# Altium footprint library LABLIB.PcbLib: 244 footprints (part 4 of 17)
Each footprint in its own frame and in the unit in brackets; x right, y up, seen from the top. Pads: shape width x height; smd on the part's side, far side on the other; paste and mask are expansions set on the pad; w line width, h text height; cw(c..) or ccw(c..) is an arc to the next point about the centre after c.
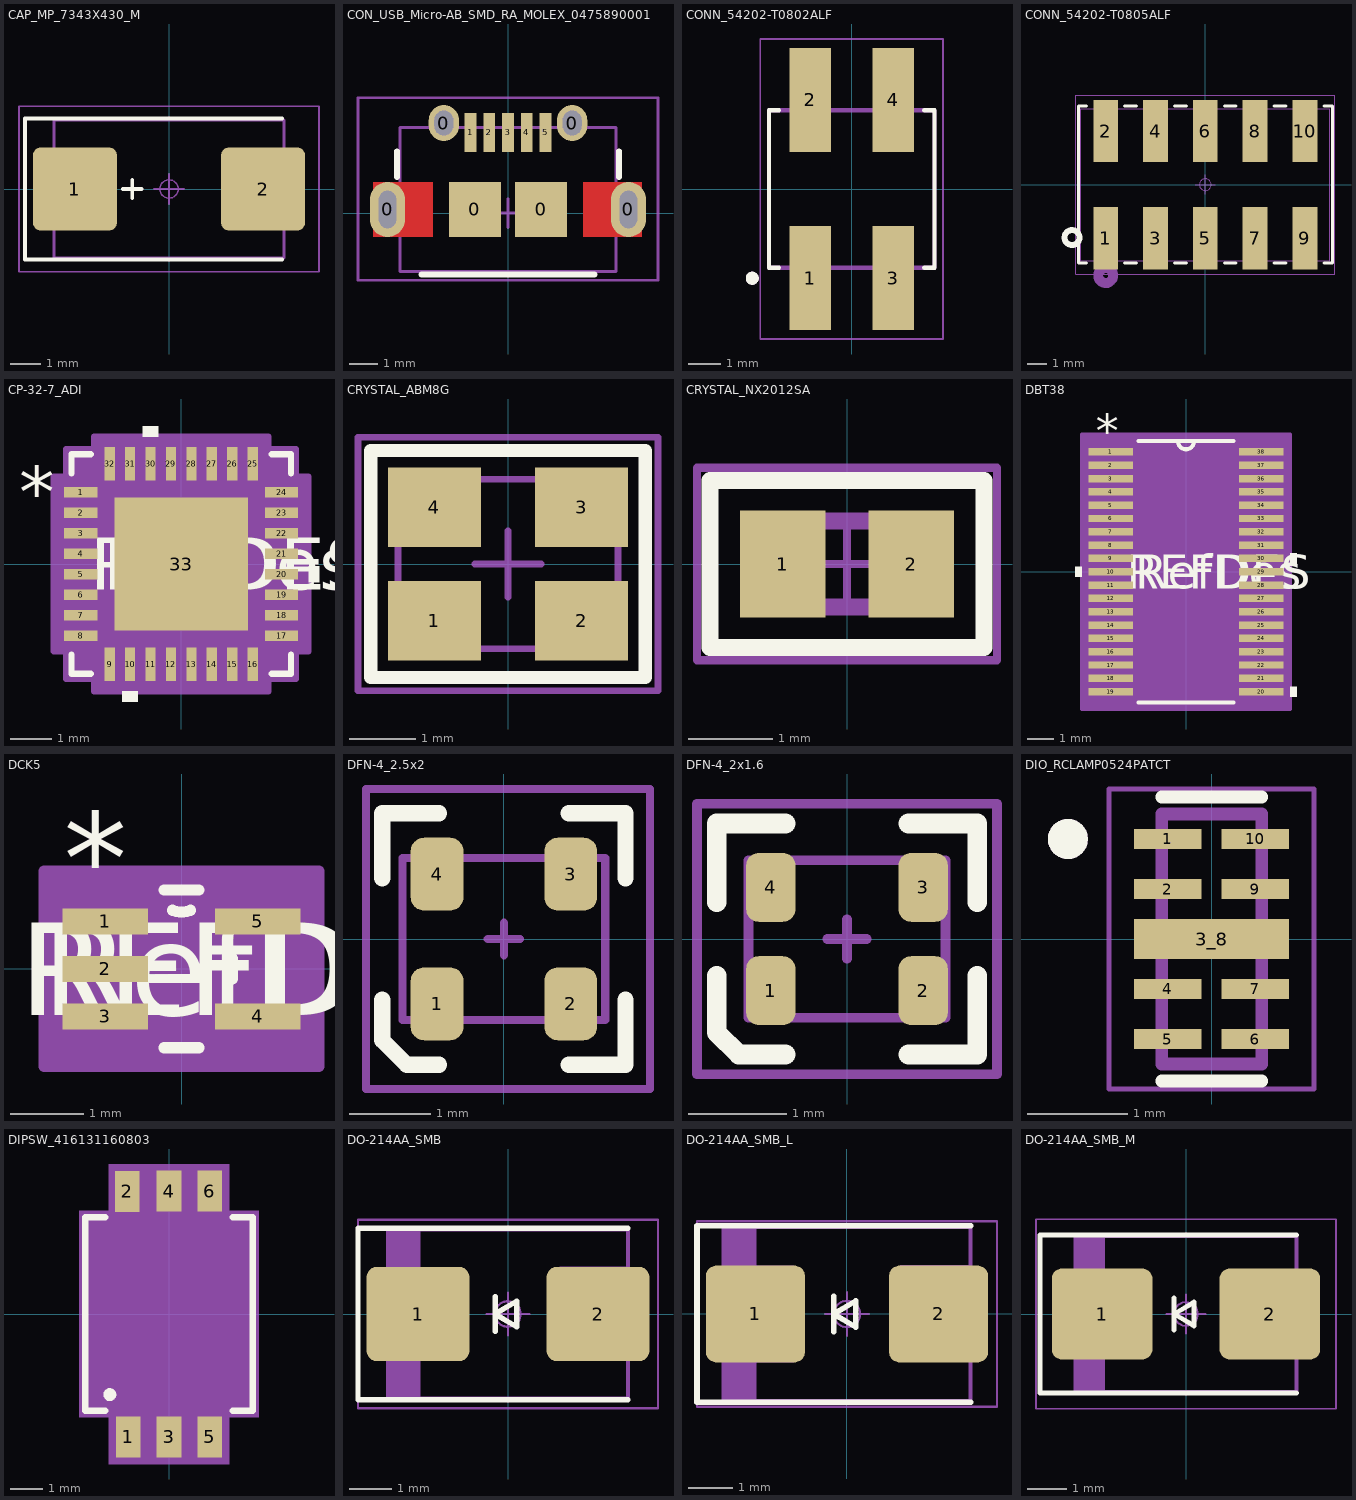
[diagram p3: the footprints below, top view; thin cyan lines are the x and y axes]

## CAP_MP_7343X430_M [mm] "Molded Capacitor, 2-Leads, Body 7.30x4.35mm, IPC Medium Density"
height 4.3
pads (2):
  rrect18% 2.75x2.7 smd: 1(-3.075,0) 2(3.075,0)
Top Overlay:
  lines w0.125: -1.5,0 -0.9,0 ; -1.2,-0.3 -1.2,0.3 ; 3.7,-2.3 -4.7,-2.3 -4.7,2.3 3.7,2.3
Top Assembly:
  lines w0.1: -3.75,-2.25 3.75,-2.25 3.75,2.25 -3.75,2.25 -3.75,-2.25
  text "'.Designator'" at -3.952,-0.622 h1.5
Top Courtyard:
  lines w0.05: -4.9,-2.7 -4.9,2.7 4.9,2.7 4.9,-2.7 -4.9,-2.7
Top Component Outline:
  rectangle: -3.75,-1.3 -2.15,1.3
  region: 3.75,1.3 2.15,1.3 2.15,-1.3 3.75,-1.3
  lines w0.05: -3.75,-2.25 -3.75,2.25 3.75,2.25 3.75,-2.25 -3.75,-2.25
Top Component Center:
  circle w0.05: c0,0 r0.3
  lines w0.05: -0.5,0 0.5,0 ; 0,-0.5 0,0.5
3D body "TAJE_AVX.step": height 4.37, standoff 0, extent -3.746,-2.248 3.746,2.248

## CON_USB_Micro-AB_SMD_RA_MOLEX_0475890001 [mm] "Connector, Receptacle, Micro-USB Type AB, R/A, SMT"
height 2.96
pads (11):
  oval 1.225x1.9 hole 0.6 slot 1.3 at 90 deg: 0(-4.175,0.127) 0(4.175,0.127)
  oval 1.05x1.25 hole 0.65 slot 0.85 at 90 deg mask+0.05: 0(-2.225,3.125) 0(2.225,3.125)
  rect 1.8x1.9 smd: 0(-1.15,0.127) 0(1.15,0.127)
  rect 0.4x1.35 smd mask+0.05: 1(-1.3,2.8) 2(-0.65,2.8) 3(0,2.8) 4(0.65,2.8) 5(1.3,2.8)
Top Layer:
  rectangle: -4.675,-0.823 -2.6,1.077
  region: 4.65,1.077 2.6,1.077 2.6,-0.823 4.65,-0.823
Top Overlay:
  lines w0.2: -3.85,1.25 -3.85,2.15 ; -3,-2.125 3,-2.125 ; 3.85,1.25 3.85,2.15
  text "." at -1.524,4.191 h1
Top Assembly:
  lines w0.1: -3.75,-2.025 -3.75,2.975 3.75,2.975 3.75,-2.025 -3.75,-2.025
  text "1" at -1.5,1.775 h1
Top Courtyard:
  lines w0.1: -0.5,0 0.5,0 ; 0,-0.5 0,0.5 ; -5.2,-2.325 -5.2,4 5.2,4 5.2,-2.325 -5.2,-2.325
3D body "475890001.stp": height 2.76, standoff -0.55, extent -4.318,-2.566 4.332,3.328

## CONN_54202-T0802ALF [mm]
height 9.85
pads (4):
  rect 1.27x3.18 smd: 1(-1.27,-2.73) 2(-1.27,2.73) 3(1.27,-2.73) 4(1.27,2.73)
Top Overlay:
  circle w0.2: c-3.05,-2.737 r0.1
  lines w0.127: -2.225,-2.415 -2.54,-2.415 -2.54,2.415 -2.225,2.415 ; 2.225,-2.415 2.54,-2.415 2.54,2.415 2.225,2.415
Mechanical 13:
  circle w0.2: c-3.05,-2.737 r0.1
  lines w0.127: -2.54,-2.415 -2.54,2.415 2.54,2.415 2.54,-2.415 -2.54,-2.415
Mechanical 15:
  lines w0.05: -2.8,-4.6 -2.8,4.6 2.8,4.6 2.8,-4.6 -2.8,-4.6
3D body "step_temp.STEP": height 9.65, standoff 0, extent -2.54,-3.685 2.54,3.685

## CONN_54202-T0805ALF [mil]
pads (10):
  rect 50x125 smd paste+0 mask+0: 1(-200,-107.5) 2(-200,107.5) 3(-100,-107.5) 4(-100,107.5) 5(0,-107.5) 6(0,107.5) 7(100,-107.5) 8(100,107.5) 9(200,-107.5) 10(200,107.5)
Top Overlay:
  circle w11.81: c-267.72,-106.3 r15
  lines w6: -238.1,-157.5 -255,-157.5 -255,157.5 -238.1,157.5 ; -161.9,-157.5 -138.1,-157.5 ; -161.9,157.5 -138.1,157.5 ; -61.9,-157.5 -38.1,-157.5 ; -61.9,157.5 -38.1,157.5 ; 38.1,-157.5 61.9,-157.5 ; 38.1,157.5 61.9,157.5 ; 138.1,-157.5 161.9,-157.5 ; 138.1,157.5 161.9,157.5 ; 238.1,-157.5 255,-157.5 255,157.5 238.1,157.5
Bottom Overlay:
  circle w20: c-325,-107.5 r15
Top Assembly:
  circle w20: c-200,-182.5 r15
  lines w1: -250,-152.5 -250,152.5 250,152.5 250,-152.5 -250,-152.5
  text "'.Designator'" at -155.57,-24.48 h59.06
Top Courtyard:
  lines w1.97: -260,-180 260,-180 260,180 -260,180 -260,-180
Top Component Center:
  circle w1.97: c0,0 r11.81
  lines w1.97: -19.68,0 19.68,0 ; 0,-19.68 0,19.68
3D body "54202-T0805ALF.STEP": height 379.92, standoff 0, extent -250,-145.08 250,145.08

## CP-32-7_ADI [mil]
pads (33):
  rect 32x10 smd paste+0 mask+0: 1(-96.5,68.9) 2(-96.5,49.21) 3(-96.5,29.53) 4(-96.5,9.84) 5(-96.5,-9.84) 6(-96.5,-29.53) 7(-96.5,-49.21) 8(-96.5,-68.9) 17(96.5,-68.9) 18(96.5,-49.21) 19(96.5,-29.53) 20(96.5,-9.84) 21(96.5,9.84) 22(96.5,29.53) 23(96.5,49.21) 24(96.5,68.9)
  rect 10x32 smd paste+0 mask+0: 9(-68.9,-96.5) 10(-49.21,-96.5) 11(-29.53,-96.5) 12(-9.84,-96.5) 13(9.84,-96.5) 14(29.53,-96.5) 15(49.21,-96.5) 16(68.9,-96.5) 25(68.9,96.5) 26(49.21,96.5) 27(29.53,96.5) 28(9.84,96.5) 29(-9.84,96.5) 30(-29.53,96.5) 31(-49.21,96.5) 32(-68.9,96.5)
  rect 128x128 smd paste+0 mask+0: 33(0,0)
Top Overlay:
  region: -41.71,-122.5 -56.71,-122.5 -56.71,-132.5 -41.71,-132.5
  region: 122.5,-2.34 132.5,-2.34 132.5,-17.34 122.5,-17.34
  region: -22.03,122.5 -37.03,122.5 -37.03,132.5 -22.03,132.5
  lines w6: -105.5,-87 -105.5,-105.5 -87,-105.5 ; -105.5,87 -105.5,105.5 -87,105.5 ; 87,-105.5 105.5,-105.5 105.5,-87 ; 87,105.5 105.5,105.5 105.5,87
  text "*" at -156,43.9 h50
  text "RefDes" at -75,-25 h50
  text "REFDES" at -87.5,-25 h50
Mechanical 13:
  lines w1: -100.5,50.5 -50.5,100.5 ; -100.5,-100.5 100.5,-100.5 100.5,100.5 -100.5,100.5 -100.5,-100.5 ; -100.5,-74.9 -100.5,-62.9 -100.5,-74.9 ; -100.5,-55.21 -100.5,-43.21 -100.5,-55.21 ; -100.5,-35.53 -100.5,-23.53 -100.5,-35.53 ; -100.5,-15.84 -100.5,-3.84 -100.5,-15.84 ; -100.5,3.84 -100.5,15.84 -100.5,3.84 ; -100.5,23.53 -100.5,35.53 -100.5,23.53 ; -100.5,43.21 -100.5,55.21 -100.5,43.21 ; -100.5,62.9 -100.5,74.9 -100.5,62.9 ; -74.9,-100.5 -62.9,-100.5 -74.9,-100.5 ; -74.9,100.5 -62.9,100.5 -74.9,100.5 ; -55.21,-100.5 -43.21,-100.5 -55.21,-100.5 ; -55.21,100.5 -43.21,100.5 -55.21,100.5 ; -35.53,-100.5 -23.53,-100.5 -35.53,-100.5 ; -35.53,100.5 -23.53,100.5 -35.53,100.5 ; -15.84,-100.5 -3.84,-100.5 -15.84,-100.5 ; -15.84,100.5 -3.84,100.5 -15.84,100.5 ; 3.84,-100.5 15.84,-100.5 3.84,-100.5 ; 3.84,100.5 15.84,100.5 3.84,100.5 ; 23.53,-100.5 35.53,-100.5 23.53,-100.5 ; 23.53,100.5 35.53,100.5 23.53,100.5 ; 43.21,-100.5 55.21,-100.5 43.21,-100.5 ; 43.21,100.5 55.21,100.5 43.21,100.5 ; 62.9,-100.5 74.9,-100.5 62.9,-100.5 ; 62.9,100.5 74.9,100.5 62.9,100.5 ; 100.5,-74.9 100.5,-62.9 100.5,-74.9 ; 100.5,-55.21 100.5,-43.21 100.5,-55.21 ; 100.5,-35.53 100.5,-23.53 100.5,-35.53 ; 100.5,-15.84 100.5,-3.84 100.5,-15.84 ; 100.5,3.84 100.5,15.84 100.5,3.84 ; 100.5,23.53 100.5,35.53 100.5,23.53 ; 100.5,43.21 100.5,55.21 100.5,43.21 ; 100.5,62.9 100.5,74.9 100.5,62.9
  text "*" at -62,43.9 h50
  text "RefDes2" at -87.5,-25 h50
Mechanical 15:
  region: -83.9,-110.5 -110.5,-110.5 -110.5,-83.9 -122.5,-83.9 -122.5,83.9 -110.5,83.9 -110.5,110.5 -83.9,110.5 -83.9,122.5 83.9,122.5 83.9,110.5 110.5,110.5 110.5,83.9 122.5,83.9 122.5,-83.9 110.5,-83.9 110.5,-110.5 83.9,-110.5 83.9,-122.5 -83.9,-122.5
  lines w6: -122.5,-83.9 -110.5,-83.9 -110.5,-110.5 -83.9,-110.5 -83.9,-122.5 83.9,-122.5 83.9,-110.5 110.5,-110.5 110.5,-83.9 122.5,-83.9 122.5,83.9 110.5,83.9 110.5,110.5 83.9,110.5 83.9,122.5 -83.9,122.5 -83.9,110.5 -110.5,110.5 -110.5,83.9 -122.5,83.9 -122.5,-83.9
3D body "CP-32-7_ADI.step": height 30.12, standoff 0, extent -100.51,-100.51 100.51,100.51

## CRYSTAL_ABM8G [mil]
pads (4):
  rect 55x47 smd: 1(-43.5,-33.5) 2(43.5,-33.5) 3(43.5,33.5) 4(-43.5,33.5)
Top Overlay:
  lines w7.87: -81,-67 -81,67 81,67 81,-67 -81,-67
  text "." at -93.5,-89.57 h39.37
Top Assembly:
  lines w4: -65,-50 -65,50 65,50 65,-50 -65,-50
  text "." at -55.12,-39.37 h39.37
  text ".Designator" at -11.81,25.59 h27.56
Top Courtyard:
  lines w3.94: -19.68,0 19.68,0 ; 0,-19.68 0,19.68
  lines w4: -88.58,-74.8 -88.58,74.8 88.58,74.8 88.58,-74.8 -88.58,-74.8
3D body "User Library-ABM8G.step": height 39.76, standoff 0, extent -62.99,-49.2 63,49.22

## CRYSTAL_NX2012SA [mil] "Crystal NDK NX2012SA"
height 23.62
pads (2):
  rect 40x50 smd paste-1: 1(-30,0) 2(30,0)
Top Overlay:
  lines w8: -64,-39 -64,39 64,39 64,-39 -64,-39
Top Assembly:
  lines w8: -40,-15 -40,-14 -40,15 -35,20 35,20 40,15 40,-15 35,-20 -35,-20 -40,-15
  text ".Designator" at 26.57,18.7 h39.37
Top Courtyard:
  lines w3.94: -19.68,0 19.68,0 ; 0,-19.68 0,19.68 ; -70,-45 -70,45 70,45 70,-45 -70,-45
3D body: height 12, standoff 0, extent -40,-20 40,20
3D body: height 14, standoff 12, extent -38,-18 38,18
3D body: height 21, standoff 14, extent -37,-17 37,17

## DBT38 [mil]
pads (38):
  rect 66x11 smd paste-33 mask-33: 1(-111,177.17) 2(-111,157.48) 3(-111,137.8) 4(-111,118.11) 5(-111,98.43) 6(-111,78.74) 7(-111,59.06) 8(-111,39.37) 9(-111,19.68) 10(-111,0) 11(-111,-19.68) 12(-111,-39.37) 13(-111,-59.06) 14(-111,-78.74) 15(-111,-98.43) 16(-111,-118.11) 17(-111,-137.8) 18(-111,-157.48) 19(-111,-177.17) 20(111,-177.17) 21(111,-157.48) 22(111,-137.8) 23(111,-118.11) 24(111,-98.43) 25(111,-78.74) 26(111,-59.06) 27(111,-39.37) 28(111,-19.68) 29(111,0) 30(111,19.69) 31(111,39.37) 32(111,59.06) 33(111,78.74) 34(111,98.43) 35(111,118.11) 36(111,137.8) 37(111,157.48) 38(111,177.17)
Top Overlay:
  region: -154,7.5 -164,7.5 -164,-7.5 -154,-7.5
  region: 154,-169.67 164,-169.67 164,-184.67 154,-184.67
  region: 154,27.19 164,27.19 164,12.19 154,12.19
  lines w6: -69.95,-193 69.95,-193 ; -69.95,193 69.95,193 ; -12,193 ccw(c0,193) 12,193
  text "*" at -133.5,183.17 h50
  text "RefDes" at -75,-25 h50
  text "REFDES" at -87.5,-25 h50
Mechanical 13:
  drawing of 157 lines, arcs and shapes, not listed
  text "*" at -133.5,183.17 h50
  text "RefDes2" at -87.5,-25 h50
Mechanical 15:
  region: 154,-203 -154,-203 -154,203 154,203
  lines w6: -154,-203 -154,203 154,203 154,-203 -154,-203
3D body "DBT38.step": height 47.09, standoff 0, extent -130,-192.99 130,192.99

## DCK5 [mil]
pads (5):
  rect 46x14 smd paste-23 mask-23: 1(-41,25.59) 2(-41,0) 3(-41,-25.59) 4(41,-25.59) 5(41,25.59)
Top Overlay:
  lines w6: -9.43,-42.5 9.43,-42.5 ; -9.43,42.5 9.43,42.5 ; -4.9,31.55 ccw(c0,42.5) 4.9,31.55 ; 27.5,-5.49 27.5,5.49
  text "*" at -63.5,34.59 h50
  text "RefDes" at -75,-25 h50
  text "REFDES" at -87.5,-25 h50
Mechanical 13:
  lines w0: -12,42.5 ccw(c0,42.5) 12,42.5
  lines w1: -47,-31.59 -47,-19.59 -27.5,-19.59 -27.5,-31.59 -47,-31.59 ; -47,-6 -47,6 -27.5,6 -27.5,-6 -47,-6 ; -47,19.59 -47,31.59 -27.5,31.59 -27.5,19.59 -47,19.59 ; -27.5,-42.5 27.5,-42.5 27.5,42.5 -27.5,42.5 -27.5,-42.5 ; 27.5,-31.59 27.5,-19.59 47,-19.59 47,-31.59 27.5,-31.59 ; 27.5,19.59 27.5,31.59 47,31.59 47,19.59 27.5,19.59
  text "*" at -63.5,34.59 h50
  text "RefDes2" at -87.5,-25 h50
Mechanical 15:
  region: 74,-52.5 -74,-52.5 -74,52.5 74,52.5
  lines w6: -74,-52.5 -74,52.5 74,52.5 74,-52.5 -74,-52.5
3D body "DCK5.step": height 43.11, standoff 0, extent -47.01,-42.52 47.01,42.52

## DFN-4_2.5x2 [mm] "Oscillator DSC1121"
height 0.85
pads (4):
  rrect50% 0.65x0.9 smd: 1(-0.825,-0.8) 2(0.825,-0.8) 3(0.825,0.8) 4(-0.825,0.8)
Top Overlay:
  lines w0.2: -1.5,-0.75 -1.5,-1.25 -1.2,-1.55 -0.8,-1.55 ; -1.5,0.75 -1.5,1.55 -0.8,1.55 ; 0.8,-1.55 1.5,-1.55 1.5,-0.75 ; 0.8,1.55 1.5,1.55 1.5,0.75
  text "." at -1.989,-1.752 h0.7
Top Assembly:
  lines w0.1: -1.25,-1 -1.25,1 1.25,1 1.25,-1 -1.25,-1
  text ".Designator" at 0.186,-0.302 h0.4
  text "1" at -0.9,-0.9 h0.4
Top Courtyard:
  lines w0.1: -0.2,0 0.2,0 ; 0,-0.2 0,0.2 ; -1.7,-1.85 1.8,-1.85 1.8,1.85 -1.7,1.85 -1.7,-1.85
3D body: height 0.86, standoff 0.85, extent -1.1,-0.9 -0.9,-0.7
3D body: height 0.85, standoff 0, extent -1.25,-1 1.25,1

## DFN-4_2x1.6 [mm] "MEMS Oscillator"
height 0.85
pads (4):
  rrect50% 0.5x0.7 smd: 1(-0.775,-0.525) 2(0.775,-0.525) 3(0.775,0.525) 4(-0.775,0.525)
Top Overlay:
  lines w0.2: -1.325,-0.375 -1.325,-0.95 -1.1,-1.175 -0.625,-1.175 ; -1.325,0.375 -1.325,1.175 -0.625,1.175 ; 0.625,-1.175 1.325,-1.175 1.325,-0.375 ; 0.625,1.175 1.325,1.175 1.325,0.375
  text "." at -1.6,-1.45 h0.7
Top Assembly:
  lines w0.1: -1,-0.8 1,-0.8 1,0.8 -1,0.8 -1,-0.8
  text "1" at -0.825,-0.675 h0.4
  text ".Designator" at -0.4,-0.2 h0.4
Top Courtyard:
  lines w0.1: -0.2,0 0.2,0 ; 0,-0.2 0,0.2 ; -1.525,-1.375 -1.525,1.375 1.525,1.375 1.525,-1.375 -1.525,-1.375
3D body: height 0.85, standoff 0, extent -1,-0.8 1,0.8
3D body: height 0.86, standoff 0.85, extent -0.775,-0.55 -0.575,-0.35

## DIO_RCLAMP0524PATCT [mm]
height 0.65
pads (9):
  rect 0.675x0.2 smd: 1(-0.437,1) 2(-0.437,0.5) 4(-0.437,-0.5) 5(-0.437,-1) 6(0.437,-1) 7(0.437,-0.5) 9(0.437,0.5) 10(0.437,1)
  rect 1.55x0.4 smd: 3_8(0,0)
Top Overlay:
  circle w0.2: c-1.438,1 r0.1
  lines w0.127: -0.5,-1.42 0.5,-1.42 ; -0.5,1.42 0.5,1.42
Mechanical 13:
  circle w0.2: c-1.438,1 r0.1
  lines w0.127: -0.5,-1.25 -0.5,1.25 0.5,1.25 0.5,-1.25 -0.5,-1.25
Mechanical 15:
  lines w0.05: -1.025,-1.5 1.025,-1.5 1.025,1.5 -1.025,1.5 -1.025,-1.5
3D body "step_temp.STEP": height 0.65, standoff 0, extent -0.5,-1.25 0.5,1.25

## DIPSW_416131160803 [mm] "SWITCH SLIDE DIP SPST 0.025A 24V"
pads (6):
  rect 0.76x1.27 smd: 1(-1.27,-3.81) 2(-1.3,3.8) 3(0,-3.81) 4(0,3.81) 5(1.27,-3.81) 6(1.27,3.81)
Top Overlay:
  circle w0.2: c-1.835,-2.5 r0.1
  lines w0.2: -1.97,-3 -2.59,-3 -2.59,3 -1.97,3 ; 1.97,-3 2.59,-3 2.59,3 1.97,3
Mechanical 13:
  lines w0.1: -2.49,-2.9 2.49,-2.9 2.49,2.9 -2.49,2.9 -2.49,-2.9
Mechanical 15:
  region: 1.87,3.2 2.79,3.2 2.79,-3.2 1.87,-3.2 1.87,-4.65 -1.87,-4.65 -1.87,-3.2 -2.79,-3.2 -2.79,3.2 -1.87,3.2 -1.87,4.65 1.87,4.65
3D body "step_temp.STEP": height 2.1, standoff 0, extent -2.425,-4 2.425,4

## DO-214AA_SMB [mm] "Molded Diode, 2-Leads, Body 5.40x3.63mm, IPC Medium Density"
height 2.47
pads (2):
  rrect22% 2.4x2.2 smd: 1(-2.1,0) 2(2.1,0)
Top Overlay:
  lines w0.12: 2.8,-2 -3.5,-2 -3.5,2 2.8,2
  lines w0.125: -0.3,-0.4 -0.3,0.4 ; -0.3,0 0.2,-0.3 0.2,0.3 -0.3,0
Top Assembly:
  rectangle: -2.8,-1.975 -2.047,1.975
  lines w0.1: -2.8,-1.975 2.8,-1.975 2.8,1.975 -2.8,1.975 -2.8,-1.975
  text "'.Designator'" at -3.952,-0.622 h1.5
Top Courtyard:
  lines w0.05: -3.5,-2.2 -3.5,2.2 3.5,2.2 3.5,-2.2 -3.5,-2.2
Top Component Outline:
  region: 2.798,1.107 1.198,1.107 1.198,-1.093 2.798,-1.093
  rectangle: -2.8,-1.1 -1.2,1.1
  lines w0.05: -2.8,-1.975 2.8,-1.975 2.8,1.975 -2.8,1.975 -2.8,-1.975
Top Component Center:
  circle w0.05: c0,0 r0.3
  lines w0.05: -0.5,0 0.5,0 ; 0,-0.5 0,0.5
3D body "5BT.STEP": height 2.44, standoff 0, extent -2.699,-1.81 2.699,1.81

## DO-214AA_SMB_L [mm] "Molded Diode, 2-Leads, Body 5.40x3.63mm, IPC Medium Density"
height 2.47
pads (2):
  rrect22% 2.25x2.2 smd: 1(-2.075,0) 2(2.075,0)
Top Overlay:
  lines w0.125: -0.3,-0.4 -0.3,0.4 ; 2.8,-2 -3.4,-2 -3.4,2 2.8,2 ; -0.3,0 0.2,-0.3 0.2,0.3 -0.3,0
Top Assembly:
  rectangle: -2.8,-1.975 -2.047,1.975
  lines w0.1: -2.8,-1.975 2.8,-1.975 2.8,1.975 -2.8,1.975 -2.8,-1.975
  text "'.Designator'" at -3.952,-0.622 h1.5
Top Courtyard:
  lines w0.05: -3.4,-2.1 3.4,-2.1 3.4,2.1 -3.4,2.1 -3.4,-2.1
Top Component Outline:
  rectangle: -2.8,-1.1 -1.2,1.1
  region: 2.798,1.107 1.198,1.107 1.198,-1.093 2.798,-1.093
  lines w0.05: -2.8,-1.975 -2.8,1.975 2.8,1.975 2.8,-1.975 -2.8,-1.975
Top Component Center:
  circle w0.05: c0,0 r0.3
  lines w0.05: -0.5,0 0.5,0 ; 0,-0.5 0,0.5
3D body "5BT.STEP": height 2.44, standoff 0, extent -2.699,-1.81 2.699,1.81

## DO-214AA_SMB_M [mm] "Molded Diode, 2-Leads, Body 5.40x3.63mm, IPC Medium Density"
height 2.47
pads (2):
  rrect21% 2.55x2.3 smd: 1(-2.125,0) 2(2.125,0)
Top Overlay:
  lines w0.125: -0.3,-0.4 -0.3,0.4 ; 2.8,-2 -3.7,-2 -3.7,2 2.8,2 ; -0.3,0 0.2,0.3 0.2,-0.3 -0.3,0
Top Assembly:
  rectangle: -2.8,-1.975 -2.047,1.975
  lines w0.1: -2.8,-1.975 2.8,-1.975 2.8,1.975 -2.8,1.975 -2.8,-1.975
  text "'.Designator'" at -3.952,-0.622 h1.5
Top Courtyard:
  lines w0.05: -3.8,-2.4 3.8,-2.4 3.8,2.4 -3.8,2.4 -3.8,-2.4
Top Component Outline:
  rectangle: -2.8,-1.1 -1.2,1.1
  region: 2.798,1.107 1.198,1.107 1.198,-1.093 2.798,-1.093
  lines w0.05: -2.8,-1.975 -2.8,1.975 2.8,1.975 2.8,-1.975 -2.8,-1.975
Top Component Center:
  circle w0.05: c0,0 r0.3
  lines w0.05: -0.5,0 0.5,0 ; 0,-0.5 0,0.5
3D body "5BT.STEP": height 2.44, standoff 0, extent -2.699,-1.81 2.699,1.81